# Altium schematic symbol library TC7WB67CFKLF.SchLib: 1 symbol
Pins are listed as number, name and electrical type; pins without a type are passive.

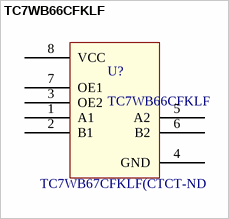
[diagram p0: symbol TC7WB66CFKLF]

## TC7WB66CFKLF
designator U?  Supplier Part Number 2: TC7WB67CFKLF(CTCT-ND
Active high bus switch; Manufacturer: Toshiba; Manufacturer Part Number: TC7WB67CFK,LF(CT; Supplier 1: Digi-Key; Supplier 2: Digi-Key; Stock 2: 5593; Pricing 2: 1=0.41, 10=0.32, 25=0.27, 100=0.2199, 250=0.1822, 500=0.1508, 1000=0.11309 (USD)
footprint US8
pins: 1 A1, 2 B1, 3 OE2, 4 GND, 5 A2, 6 B2, 7 OE1, 8 VCC